# EAGLE library part 0781710004 (library 0781710004)
1.20MM WTB HEADER VERT 4POS Source: Datasheet <https://www.molex.com/pdm_docs/sd/781710004_sd.pdf>
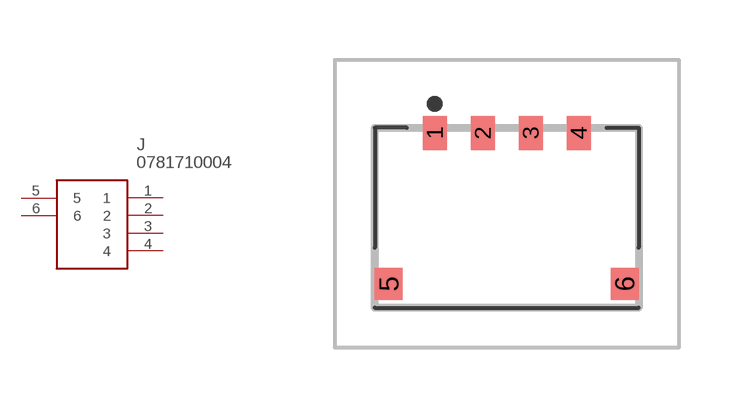
[diagram p0: symbol with the pads of 0781710004; footprint 0781710004]

Designator prefix J

## 0781710004 (Arrow_Part_Number: 0781710004; Arrow_Price-Stock: https://www.arrow.com/en/products/0781710004/molex; Description: 1.20MM WTB HEADER VERT 4POS; Height: 1mm; Manufacturer_Name: Molex; Manufacturer_Part_Number: 0781710004; Mouser_Part_Number: N/A; Mouser_Price-Stock: https://www.mouser.co.uk/ProductDetail/Molex/0781710004?qs=PBcRNPEHKsrNmPTZlGghEw%3D%3D)  [0781710004]
1  1
2  2
3  3
4  4
5  5
6  6

## Footprint 0781710004 (pad centres in mm)
0781710004
smd 0.6 x 0.85: 1 -1.8,1.775; 2 -0.6,1.775; 3 0.6,1.775; 4 1.8,1.775
smd 0.7 x 0.8: 5 -2.95,-2; 6 2.95,-2